# Altium footprint library 687 1xx 182 122.PcbLib: 18 footprints (part 1 of 2)
Each footprint in its own frame and in the unit in brackets; x right, y up, seen from the top. Pads: shape width x height; smd on the part's side, far side on the other; paste and mask are expansions set on the pad; w line width, h text height; cw(c..) or ccw(c..) is an arc to the next point about the centre after c.
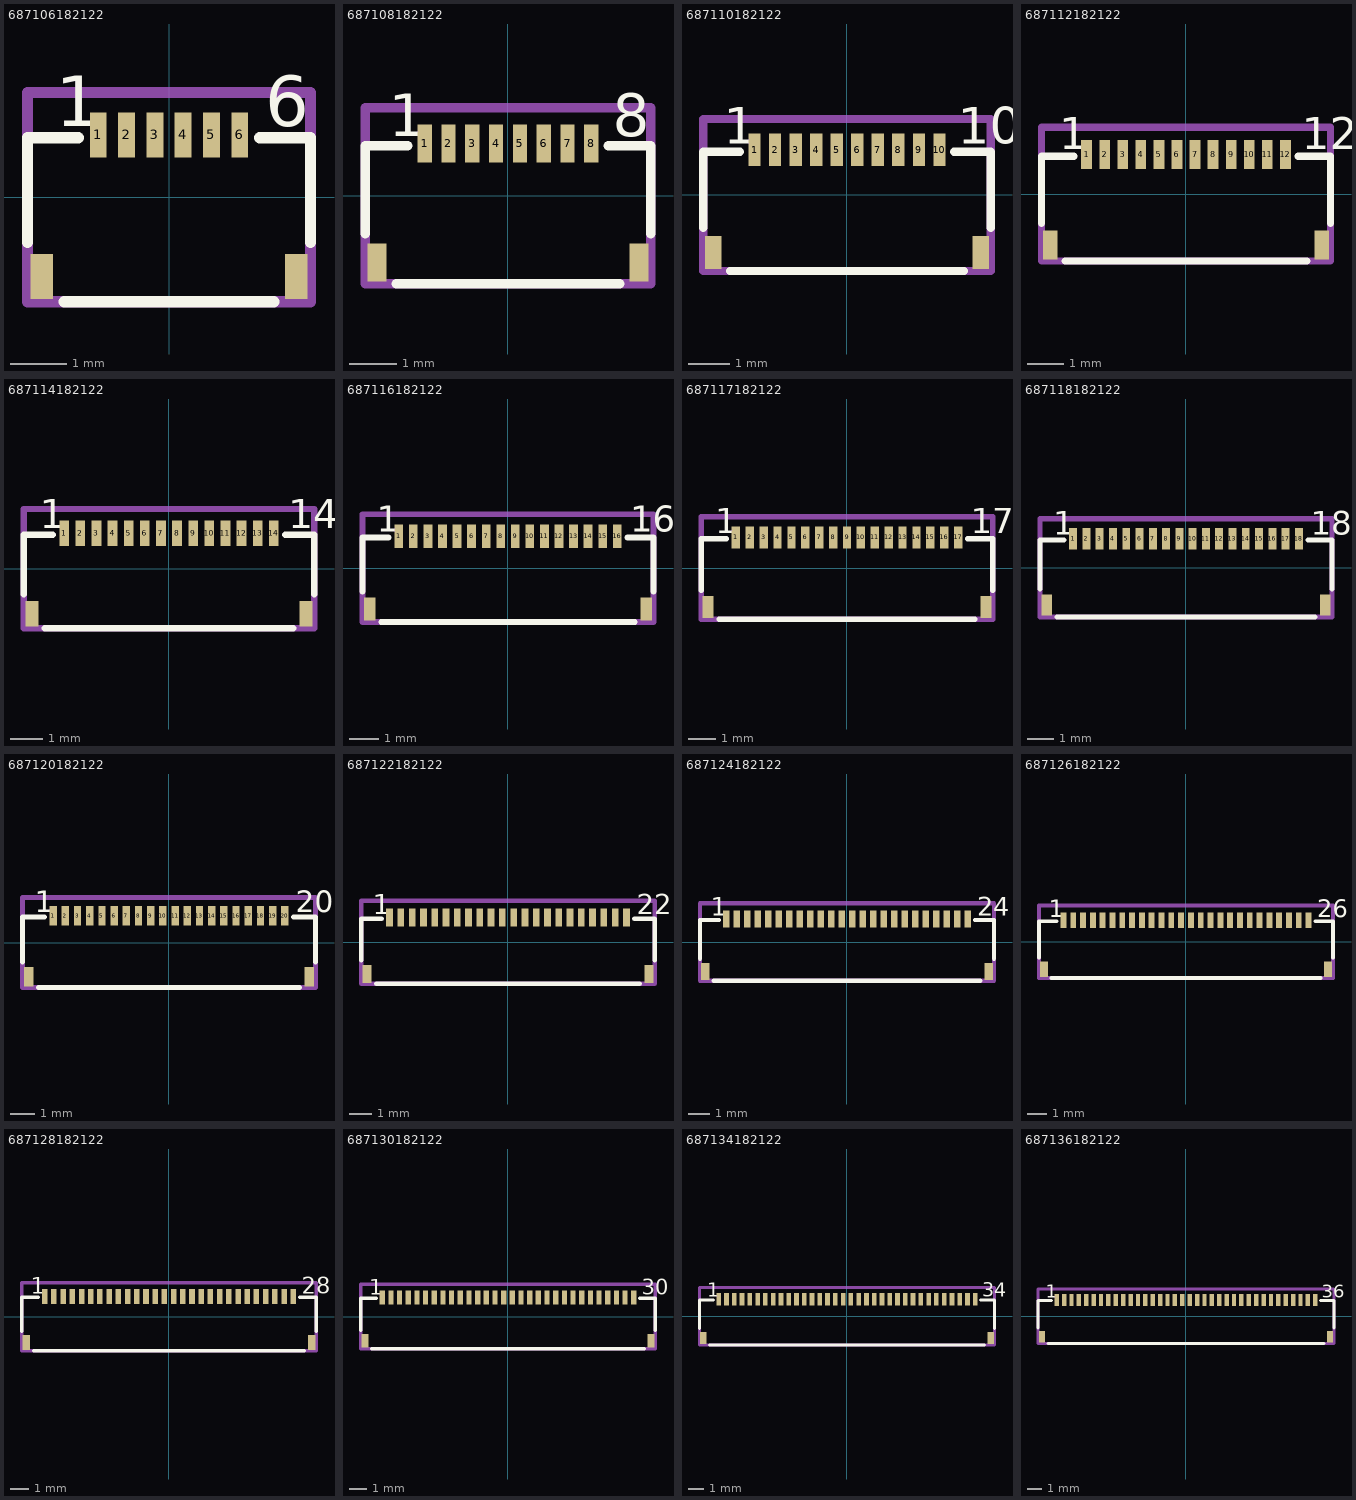
[diagram p0: the footprints below, top view; thin cyan lines are the x and y axes]

## 687106182122 [mm] "0.50 mm SMT ZIF Horizontal Dual Contact, 6p"
height 0.96
pads (8):
  rect 0.3x0.8 smd: 1(-1.25,1.1) 2(-0.75,1.1) 3(-0.25,1.1) 4(0.25,1.1) 5(0.75,1.1) 6(1.25,1.1)
  rect 0.4x0.8 smd: ""(-2.25,-1.4) ""(2.25,-1.4)
Top Overlay:
  lines w0.2: -2.5,-0.8 -2.5,1.05 -1.605,1.05 ; -1.85,-1.85 1.85,-1.85 ; 1.605,1.05 2.5,1.05 2.5,-0.8
  text "6" at 1.7,1.25 h0.89
  text "1" at -2,1.25 h0.89
Mechanical 13:
  lines w0.2: -2.5,-1.85 2.5,-1.85 2.5,1.85 -2.5,1.85 -2.5,-1.85
3D body "687106182122.stp": height 0.98, standoff -0.01, extent -2.5,-1.85 2.5,1.85

## 687108182122 [mm] "0.50 mm SMT ZIF Horizontal Dual Contact, 8p"
height 0.96
pads (10):
  rect 0.3x0.8 smd: 1(-1.75,1.1) 2(-1.25,1.1) 3(-0.75,1.1) 4(-0.25,1.1) 5(0.25,1.1) 6(0.75,1.1) 7(1.25,1.1) 8(1.75,1.1)
  rect 0.4x0.8 smd: ""(-2.75,-1.4) ""(2.75,-1.4)
Top Overlay:
  lines w0.2: -3,-0.8 -3,1.05 -2.105,1.05 ; -2.35,-1.85 2.35,-1.85 ; 2.105,1.05 3,1.05 3,-0.8
  text "1" at -2.5,1.25 h0.89
  text "8" at 2.2,1.25 h0.89
Mechanical 13:
  lines w0.2: -3,-1.85 -3,1.85 3,1.85 3,-1.85 -3,-1.85
3D body "687108182122.stp": height 0.98, standoff -0.01, extent -3,-1.85 3,1.85

## 687110182122 [mm] "0.50 mm SMT ZIF Horizontal Dual Contact, 10p"
height 0.96
pads (12):
  rect 0.3x0.8 smd: 1(-2.25,1.1) 2(-1.75,1.1) 3(-1.25,1.1) 4(-0.75,1.1) 5(-0.25,1.1) 6(0.25,1.1) 7(0.75,1.1) 8(1.25,1.1) 9(1.75,1.1) 10(2.25,1.1)
  rect 0.4x0.8 smd: ""(-3.25,-1.4) ""(3.25,-1.4)
Top Overlay:
  lines w0.2: -3.5,-0.8 -3.5,1.05 -2.605,1.05 ; -2.85,-1.85 2.85,-1.85 ; 2.605,1.05 3.5,1.05 3.5,-0.8
  text "10" at 2.7,1.25 h0.89
  text "1" at -3,1.25 h0.89
Mechanical 13:
  lines w0.2: -3.5,-1.85 3.5,-1.85 3.5,1.85 -3.5,1.85 -3.5,-1.85
3D body "687110182122.stp": height 0.98, standoff -0.01, extent -3.5,-1.85 3.5,1.85

## 687112182122 [mm] "0.50 mm SMT ZIF Horizontal Dual Contact, 12p"
height 0.96
pads (14):
  rect 0.3x0.8 smd: 1(-2.75,1.1) 2(-2.25,1.1) 3(-1.75,1.1) 4(-1.25,1.1) 5(-0.75,1.1) 6(-0.25,1.1) 7(0.25,1.1) 8(0.75,1.1) 9(1.25,1.1) 10(1.75,1.1) 11(2.25,1.1) 12(2.75,1.1)
  rect 0.4x0.8 smd: ""(-3.75,-1.4) ""(3.75,-1.4)
Top Overlay:
  lines w0.2: -4,-0.8 -4,1.05 -3.105,1.05 ; -3.35,-1.85 3.35,-1.85 ; 3.105,1.05 4,1.05 4,-0.8
  text "12" at 3.2,1.25 h0.89
  text "1" at -3.5,1.25 h0.89
Mechanical 13:
  lines w0.2: -4,-1.85 -4,1.85 4,1.85 4,-1.85 -4,-1.85
3D body "687112182122.stp": height 0.98, standoff -0.01, extent -4,-1.85 4,1.85

## 687114182122 [mm] "0.50 mm SMT ZIF Horizontal Dual Contact, 14p"
height 0.96
pads (16):
  rect 0.3x0.8 smd: 1(-3.25,1.1) 2(-2.75,1.1) 3(-2.25,1.1) 4(-1.75,1.1) 5(-1.25,1.1) 6(-0.75,1.1) 7(-0.25,1.1) 8(0.25,1.1) 9(0.75,1.1) 10(1.25,1.1) 11(1.75,1.1) 12(2.25,1.1) 13(2.75,1.1) 14(3.25,1.1)
  rect 0.4x0.8 smd: ""(-4.25,-1.4) ""(4.25,-1.4)
Top Overlay:
  lines w0.2: -4.5,-0.8 -4.5,1.05 -3.605,1.05 ; -3.85,-1.85 3.85,-1.85 ; 3.605,1.05 4.5,1.05 4.5,-0.8
  text "1" at -4,1.25 h0.89
  text "14" at 3.7,1.25 h0.89
Mechanical 13:
  lines w0.2: -4.5,-1.85 4.5,-1.85 4.5,1.85 -4.5,1.85 -4.5,-1.85
3D body "687114182122.stp": height 0.98, standoff -0.01, extent -4.5,-1.85 4.5,1.85

## 687116182122 [mm] "0.50 mm SMT ZIF Horizontal Dual Contact, 16p"
height 0.96
pads (18):
  rect 0.3x0.8 smd: 1(-3.75,1.1) 2(-3.25,1.1) 3(-2.75,1.1) 4(-2.25,1.1) 5(-1.75,1.1) 6(-1.25,1.1) 7(-0.75,1.1) 8(-0.25,1.1) 9(0.25,1.1) 10(0.75,1.1) 11(1.25,1.1) 12(1.75,1.1) 13(2.25,1.1) 14(2.75,1.1) 15(3.25,1.1) 16(3.75,1.1)
  rect 0.4x0.8 smd: ""(-4.75,-1.4) ""(4.75,-1.4)
Top Overlay:
  lines w0.2: -5,-0.8 -5,1.05 -4.105,1.05 ; -4.35,-1.85 4.35,-1.85 ; 4.105,1.05 5,1.05 5,-0.8
  text "1" at -4.5,1.25 h0.89
  text "16" at 4.2,1.25 h0.89
Mechanical 13:
  lines w0.2: -5,-1.85 5,-1.85 5,1.85 -5,1.85 -5,-1.85
3D body "687116182122.stp": height 0.98, standoff -0.01, extent -5,-1.85 5,1.85

## 687117182122 [mm] "0.50 mm SMT ZIF Horizontal Dual Contact, 17p"
height 0.96
pads (19):
  rect 0.3x0.8 smd: 1(-4,1.1) 2(-3.5,1.1) 3(-3,1.1) 4(-2.5,1.1) 5(-2,1.1) 6(-1.5,1.1) 7(-1,1.1) 8(-0.5,1.1) 9(0,1.1) 10(0.5,1.1) 11(1,1.1) 12(1.5,1.1) 13(2,1.1) 14(2.5,1.1) 15(3,1.1) 16(3.5,1.1) 17(4,1.1)
  rect 0.4x0.8 smd: ""(-5,-1.4) ""(5,-1.4)
Top Overlay:
  lines w0.2: -5.25,-0.8 -5.25,1.05 -4.355,1.05 ; -4.6,-1.85 4.6,-1.85 ; 4.355,1.05 5.25,1.05 5.25,-0.8
  text "17" at 4.45,1.25 h0.89
  text "1" at -4.75,1.25 h0.89
Mechanical 13:
  lines w0.2: -5.25,-1.85 -5.25,1.85 5.25,1.85 5.25,-1.85 -5.25,-1.85
3D body "687117182122.stp": height 0.98, standoff -0.01, extent -5.25,-1.85 5.25,1.85

## 687118182122 [mm] "0.50 mm SMT ZIF Horizontal Dual Contact, 18p"
height 0.96
pads (20):
  rect 0.3x0.8 smd: 1(-4.25,1.1) 2(-3.75,1.1) 3(-3.25,1.1) 4(-2.75,1.1) 5(-2.25,1.1) 6(-1.75,1.1) 7(-1.25,1.1) 8(-0.75,1.1) 9(-0.25,1.1) 10(0.25,1.1) 11(0.75,1.1) 12(1.25,1.1) 13(1.75,1.1) 14(2.25,1.1) 15(2.75,1.1) 16(3.25,1.1) 17(3.75,1.1) 18(4.25,1.1)
  rect 0.4x0.8 smd: ""(-5.25,-1.4) ""(5.25,-1.4)
Top Overlay:
  lines w0.2: -5.5,-0.8 -5.5,1.05 -4.605,1.05 ; -4.85,-1.85 4.85,-1.85 ; 4.605,1.05 5.5,1.05 5.5,-0.8
  text "1" at -5,1.25 h0.89
  text "18" at 4.7,1.25 h0.89
Mechanical 13:
  lines w0.2: -5.5,-1.85 -5.5,1.85 5.5,1.85 5.5,-1.85 -5.5,-1.85
3D body "687118182122.stp": height 0.98, standoff -0.01, extent -5.5,-1.85 5.5,1.85

## 687120182122 [mm] "0.50 mm SMT ZIF Horizontal Dual Contact, 20p"
height 0.96
pads (22):
  rect 0.3x0.8 smd: 1(-4.75,1.1) 2(-4.25,1.1) 3(-3.75,1.1) 4(-3.25,1.1) 5(-2.75,1.1) 6(-2.25,1.1) 7(-1.75,1.1) 8(-1.25,1.1) 9(-0.75,1.1) 10(-0.25,1.1) 11(0.25,1.1) 12(0.75,1.1) 13(1.25,1.1) 14(1.75,1.1) 15(2.25,1.1) 16(2.75,1.1) 17(3.25,1.1) 18(3.75,1.1) 19(4.25,1.1) 20(4.75,1.1)
  rect 0.4x0.8 smd: ""(-5.75,-1.4) ""(5.75,-1.4)
Top Overlay:
  lines w0.2: -6,-0.8 -6,1.05 -5.105,1.05 ; -5.35,-1.85 5.35,-1.85 ; 5.105,1.05 6,1.05 6,-0.8
  text "20" at 5.2,1.25 h0.89
  text "1" at -5.5,1.25 h0.89
Mechanical 13:
  lines w0.2: -6,-1.85 6,-1.85 6,1.85 -6,1.85 -6,-1.85
3D body "687120182122.stp": height 0.98, standoff -0.01, extent -6,-1.85 6,1.85

## 687122182122 [mm] "0.50 mm SMT ZIF Horizontal Dual Contact, 22p"
height 0.96
pads (24):
  rect 0.3x0.8 smd: 1(-5.25,1.1) 2(-4.75,1.1) 3(-4.25,1.1) 4(-3.75,1.1) 5(-3.25,1.1) 6(-2.75,1.1) 7(-2.25,1.1) 8(-1.75,1.1) 9(-1.25,1.1) 10(-0.75,1.1) 11(-0.25,1.1) 12(0.25,1.1) 13(0.75,1.1) 14(1.25,1.1) 15(1.75,1.1) 16(2.25,1.1) 17(2.75,1.1) 18(3.25,1.1) 19(3.75,1.1) 20(4.25,1.1) 21(4.75,1.1) 22(5.25,1.1)
  rect 0.4x0.8 smd: ""(-6.25,-1.4) ""(6.25,-1.4)
Top Overlay:
  lines w0.2: -6.5,-0.8 -6.5,1.05 -5.605,1.05 ; -5.85,-1.85 5.85,-1.85 ; 5.605,1.05 6.5,1.05 6.5,-0.8
  text "22" at 5.7,1.25 h0.89
  text "1" at -6,1.25 h0.89
Mechanical 13:
  lines w0.2: -6.5,-1.85 6.5,-1.85 6.5,1.85 -6.5,1.85 -6.5,-1.85
3D body "687122182122.stp": height 0.98, standoff -0.01, extent -6.5,-1.85 6.5,1.85

## 687124182122 [mm] "0.50 mm SMT ZIF Horizontal Dual Contact, 24p"
height 0.96
pads (26):
  rect 0.3x0.8 smd: 1(-5.75,1.1) 2(-5.25,1.1) 3(-4.75,1.1) 4(-4.25,1.1) 5(-3.75,1.1) 6(-3.25,1.1) 7(-2.75,1.1) 8(-2.25,1.1) 9(-1.75,1.1) 10(-1.25,1.1) 11(-0.75,1.1) 12(-0.25,1.1) 13(0.25,1.1) 14(0.75,1.1) 15(1.25,1.1) 16(1.75,1.1) 17(2.25,1.1) 18(2.75,1.1) 19(3.25,1.1) 20(3.75,1.1) 21(4.25,1.1) 22(4.75,1.1) 23(5.25,1.1) 24(5.75,1.1)
  rect 0.4x0.8 smd: ""(-6.75,-1.4) ""(6.75,-1.4)
Top Overlay:
  lines w0.2: -7,-0.8 -7,1.05 -6.105,1.05 ; -6.35,-1.85 6.35,-1.85 ; 6.105,1.05 7,1.05 7,-0.8
  text "24" at 6.2,1.25 h0.89
  text "1" at -6.5,1.25 h0.89
Mechanical 13:
  lines w0.2: -7,-1.85 7,-1.85 7,1.85 -7,1.85 -7,-1.85
3D body "687124182122.stp": height 0.98, standoff -0.01, extent -7,-1.85 7,1.85

## 687126182122 [mm] "0.50 mm SMT ZIF Horizontal Dual Contact, 26p"
height 0.96
pads (28):
  rect 0.3x0.8 smd: 1(-6.25,1.1) 2(-5.75,1.1) 3(-5.25,1.1) 4(-4.75,1.1) 5(-4.25,1.1) 6(-3.75,1.1) 7(-3.25,1.1) 8(-2.75,1.1) 9(-2.25,1.1) 10(-1.75,1.1) 11(-1.25,1.1) 12(-0.75,1.1) 13(-0.25,1.1) 14(0.25,1.1) 15(0.75,1.1) 16(1.25,1.1) 17(1.75,1.1) 18(2.25,1.1) 19(2.75,1.1) 20(3.25,1.1) 21(3.75,1.1) 22(4.25,1.1) 23(4.75,1.1) 24(5.25,1.1) 25(5.75,1.1) 26(6.25,1.1)
  rect 0.4x0.8 smd: ""(-7.25,-1.4) ""(7.25,-1.4)
Top Overlay:
  lines w0.2: -7.5,-0.8 -7.5,1.05 -6.605,1.05 ; -6.85,-1.85 6.85,-1.85 ; 6.605,1.05 7.5,1.05 7.5,-0.8
  text "1" at -7,1.25 h0.89
  text "26" at 6.7,1.25 h0.89
Mechanical 13:
  lines w0.2: -7.5,-1.85 -7.5,1.85 7.5,1.85 7.5,-1.85 -7.5,-1.85
3D body "687126182122.stp": height 0.98, standoff -0.01, extent -7.5,-1.85 7.5,1.85

## 687128182122 [mm] "0.50 mm SMT ZIF Horizontal Dual Contact, 28p"
height 0.96
pads (30):
  rect 0.3x0.8 smd: 1(-6.75,1.1) 2(-6.25,1.1) 3(-5.75,1.1) 4(-5.25,1.1) 5(-4.75,1.1) 6(-4.25,1.1) 7(-3.75,1.1) 8(-3.25,1.1) 9(-2.75,1.1) 10(-2.25,1.1) 11(-1.75,1.1) 12(-1.25,1.1) 13(-0.75,1.1) 14(-0.25,1.1) 15(0.25,1.1) 16(0.75,1.1) 17(1.25,1.1) 18(1.75,1.1) 19(2.25,1.1) 20(2.75,1.1) 21(3.25,1.1) 22(3.75,1.1) 23(4.25,1.1) 24(4.75,1.1) 25(5.25,1.1) 26(5.75,1.1) 27(6.25,1.1) 28(6.75,1.1)
  rect 0.4x0.8 smd: ""(-7.75,-1.4) ""(7.75,-1.4)
Top Overlay:
  lines w0.2: -8,-0.8 -8,1.05 -7.105,1.05 ; -7.35,-1.85 7.35,-1.85 ; 7.105,1.05 8,1.05 8,-0.8
  text "28" at 7.2,1.25 h0.89
  text "1" at -7.5,1.25 h0.89
Mechanical 13:
  lines w0.2: -8,-1.85 8,-1.85 8,1.85 -8,1.85 -8,-1.85
3D body "687128182122.stp": height 0.98, standoff -0.01, extent -8,-1.85 8,1.85

## 687130182122 [mm] "0.50 mm SMT ZIF Horizontal Dual Contact, 30p"
height 0.96
pads (32):
  rect 0.3x0.8 smd: 1(-7.25,1.1) 2(-6.75,1.1) 3(-6.25,1.1) 4(-5.75,1.1) 5(-5.25,1.1) 6(-4.75,1.1) 7(-4.25,1.1) 8(-3.75,1.1) 9(-3.25,1.1) 10(-2.75,1.1) 11(-2.25,1.1) 12(-1.75,1.1) 13(-1.25,1.1) 14(-0.75,1.1) 15(-0.25,1.1) 16(0.25,1.1) 17(0.75,1.1) 18(1.25,1.1) 19(1.75,1.1) 20(2.25,1.1) 21(2.75,1.1) 22(3.25,1.1) 23(3.75,1.1) 24(4.25,1.1) 25(4.75,1.1) 26(5.25,1.1) 27(5.75,1.1) 28(6.25,1.1) 29(6.75,1.1) 30(7.25,1.1)
  rect 0.4x0.8 smd: ""(-8.25,-1.4) ""(8.25,-1.4)
Top Overlay:
  lines w0.2: -8.5,-0.8 -8.5,1.05 -7.605,1.05 ; -7.85,-1.85 7.85,-1.85 ; 7.605,1.05 8.5,1.05 8.5,-0.8
  text "30" at 7.7,1.25 h0.89
  text "1" at -8,1.25 h0.89
Mechanical 13:
  lines w0.2: -8.5,-1.85 8.5,-1.85 8.5,1.85 -8.5,1.85 -8.5,-1.85
3D body "687130182122.stp": height 0.98, standoff -0.01, extent -8.5,-1.85 8.5,1.85

## 687134182122 [mm] "0.50 mm SMT ZIF Horizontal Dual Contact, 34p"
height 0.96
pads (36):
  rect 0.3x0.8 smd: 1(-8.25,1.1) 2(-7.75,1.1) 3(-7.25,1.1) 4(-6.75,1.1) 5(-6.25,1.1) 6(-5.75,1.1) 7(-5.25,1.1) 8(-4.75,1.1) 9(-4.25,1.1) 10(-3.75,1.1) 11(-3.25,1.1) 12(-2.75,1.1) 13(-2.25,1.1) 14(-1.75,1.1) 15(-1.25,1.1) 16(-0.75,1.1) 17(-0.25,1.1) 18(0.25,1.1) 19(0.75,1.1) 20(1.25,1.1) 21(1.75,1.1) 22(2.25,1.1) 23(2.75,1.1) 24(3.25,1.1) 25(3.75,1.1) 26(4.25,1.1) 27(4.75,1.1) 28(5.25,1.1) 29(5.75,1.1) 30(6.25,1.1) 31(6.75,1.1) 32(7.25,1.1) 33(7.75,1.1) 34(8.25,1.1)
  rect 0.4x0.8 smd: ""(-9.25,-1.4) ""(9.25,-1.4)
Top Overlay:
  lines w0.2: -9.5,-0.8 -9.5,1.05 -8.605,1.05 ; -8.85,-1.85 8.85,-1.85 ; 8.605,1.05 9.5,1.05 9.5,-0.8
  text "34" at 8.7,1.25 h0.89
  text "1" at -9,1.25 h0.89
Mechanical 13:
  lines w0.2: -9.5,-1.85 9.5,-1.85 9.5,1.85 -9.5,1.85 -9.5,-1.85
3D body "687134182122.stp": height 0.98, standoff -0.01, extent -9.5,-1.85 9.5,1.85

## 687136182122 [mm] "0.50 mm SMT ZIF Horizontal Dual Contact, 36p"
height 0.96
pads (38):
  rect 0.3x0.8 smd: 1(-8.75,1.1) 2(-8.25,1.1) 3(-7.75,1.1) 4(-7.25,1.1) 5(-6.75,1.1) 6(-6.25,1.1) 7(-5.75,1.1) 8(-5.25,1.1) 9(-4.75,1.1) 10(-4.25,1.1) 11(-3.75,1.1) 12(-3.25,1.1) 13(-2.75,1.1) 14(-2.25,1.1) 15(-1.75,1.1) 16(-1.25,1.1) 17(-0.75,1.1) 18(-0.25,1.1) 19(0.25,1.1) 20(0.75,1.1) 21(1.25,1.1) 22(1.75,1.1) 23(2.25,1.1) 24(2.75,1.1) 25(3.25,1.1) 26(3.75,1.1) 27(4.25,1.1) 28(4.75,1.1) 29(5.25,1.1) 30(5.75,1.1) 31(6.25,1.1) 32(6.75,1.1) 33(7.25,1.1) 34(7.75,1.1) 35(8.25,1.1) 36(8.75,1.1)
  rect 0.4x0.8 smd: ""(-9.75,-1.4) ""(9.75,-1.4)
Top Overlay:
  lines w0.2: -10,-0.8 -10,1.05 -9.105,1.05 ; -9.35,-1.85 9.35,-1.85 ; 9.105,1.05 10,1.05 10,-0.8
  text "1" at -9.5,1.25 h0.89
  text "36" at 9.2,1.25 h0.89
Mechanical 13:
  lines w0.2: -10,-1.85 -10,1.85 10,1.85 10,-1.85 -10,-1.85
3D body "687136182122.stp": height 0.98, standoff -0.01, extent -10,-1.85 10,1.85